# Altium footprint library axsem_modules_v1-0.PCBLIB: 2 footprints
Each footprint in its own frame and in the unit in brackets; x right, y up, seen from the top. Pads: shape width x height; smd on the part's side, far side on the other; paste and mask are expansions set on the pad; w line width, h text height; cw(c..) or ccw(c..) is an arc to the next point about the centre after c.
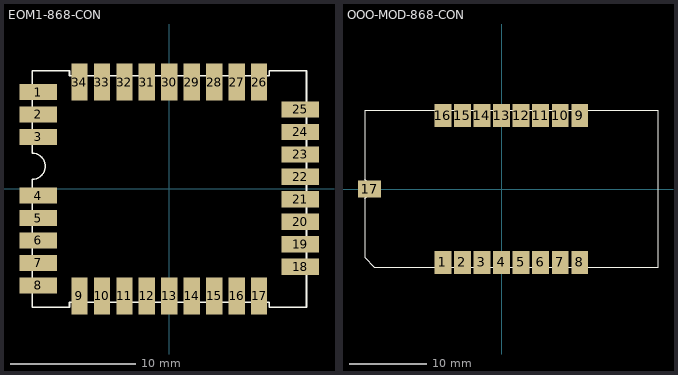
[diagram p0: the footprints below, top view; thin cyan lines are the x and y axes]

## EOM1-868-CON [mm]
pads (34):
  rect 3x1.3 smd: 1(-10.5,7.75) 2(-10.5,5.95) 3(-10.5,4.15) 4(-10.5,-0.55) 5(-10.5,-2.35) 6(-10.5,-4.15) 7(-10.5,-5.95) 8(-10.5,-7.75) 18(10.5,-6.25) 19(10.5,-4.45) 20(10.5,-2.65) 21(10.5,-0.85) 22(10.5,0.95) 23(10.5,2.75) 24(10.5,4.55) 25(10.5,6.35)
  rect 1.3x3 smd: 9(-7.2,-8.6) 10(-5.4,-8.6) 11(-3.6,-8.6) 12(-1.8,-8.6) 13(0,-8.6) 14(1.8,-8.6) 15(3.6,-8.6) 16(5.4,-8.6) 17(7.2,-8.6) 26(7.2,8.55) 27(5.4,8.55) 28(3.6,8.55) 29(1.8,8.55) 30(0,8.55) 31(-1.8,8.55) 32(-3.6,8.55) 33(-5.4,8.55) 34(-7.2,8.55)
Top Overlay:
  lines w0.127: -11,-9.5 -11,0.75 ccw(c-11,1.8) -11,2.85 -11,9.45 -8,9.45 -8,9.05 8,9.05 8,9.45 11,9.45 11,-9.5 8,-9.5 8,-9.1 -8,-9.1 -8,-9.5 -11,-9.5

## OOO-MOD-868-CON [mm]
pads (17):
  rect 2.2x3 smd: 1(-7.62,-9.525) 2(-5.08,-9.525) 3(-2.54,-9.525) 4(0,-9.525) 5(2.54,-9.525) 6(5.08,-9.525) 7(7.62,-9.525) 8(10.16,-9.525) 9(10.16,9.525) 10(7.62,9.525) 11(5.08,9.525) 12(2.54,9.525) 13(0,9.525) 14(-2.54,9.525) 15(-5.08,9.525) 16(-7.62,9.525)
  rect 3x2.2 smd: 17(-17.145,0)
Top Overlay:
  lines w0.127: -17.78,-1.27 -17.78,1.27 ; -17.78,-1.27 -17.78,-8.89 -16.51,-10.16 20.32,-10.16 20.32,10.16 -17.78,10.16 -17.78,1.27 ; -17.78,-1.27 -16.51,0 -17.78,1.27